# Altium schematic symbol library ICM-42688-V.SchLib: 1 symbol
Pins are listed as number, name and electrical type; pins without a type are passive.

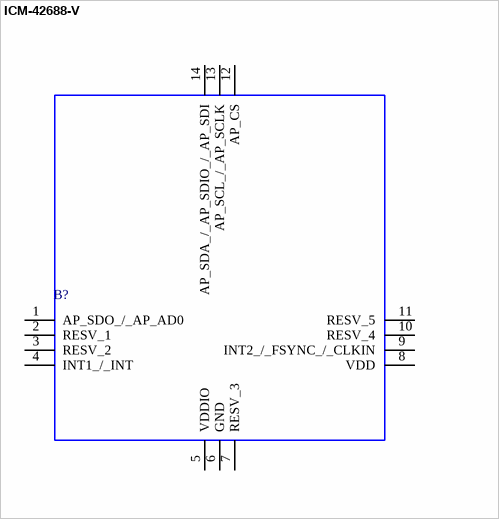
[diagram p0: symbol ICM-42688-V]

## ICM-42688-V
designator B?
High Precision 6-Axis MEMS MotionTracking? Device with Advanced Sensor Fusion Library; Manufacturer_Name: TDK; Manufacturer_Part_Number: ICM-42688-V; Mouser Part Number: 410-ICM-42688-V; Mouser Price/Stock: https://www.mouser.co.uk/ProductDetail/TDK-InvenSense/ICM-42688-V?qs=iLbezkQI%252Bsj8X%2F1CCh43jQ%3D%3D; Arrow Part Number: *; Arrow Price/Stock: *; Mouser Testing Part Number: *; Mouser Testing Price/Stock: *; Datasheet Link: https://3cfeqx1hf82y3xcoull08ihx-wpengine.netdna-ssl.com/wp-content/uploads/2021/04/DS-000439-ICM-42688-V-v1.1.pdf
footprint IIM42352
pins: 1 AP_SDO_/_AP_AD0, 2 RESV_1, 3 RESV_2, 4 INT1_/_INT, 5 VDDIO, 6 GND, 7 RESV_3, 8 VDD, 9 INT2_/_FSYNC_/_CLKIN, 10 RESV_4, 11 RESV_5, 12 AP_CS, 13 AP_SCL_/_AP_SCLK, 14 AP_SDA_/_AP_SDIO_/_AP_SDI